# Altium schematic symbol library Diodes.SchLib: 19 symbols
Pins are listed as number, name and electrical type; pins without a type are passive.

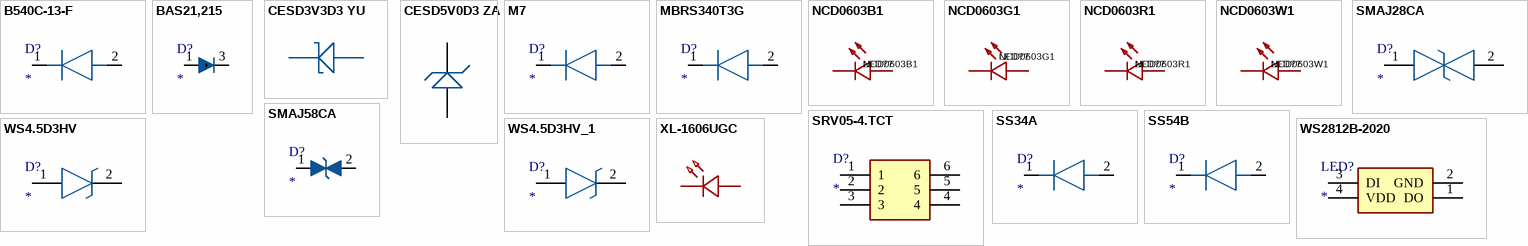
[diagram p0: symbols B540C-13-F to XL-1606UGC]

## B540C-13-F
designator D?
Diode; Manufacturer_Name: Diodes Incorporated; Manufacturer_Part_Number: B540C-13-F; Datasheet Link: https://componentsearchengine.com/Datasheets/2/B540C-13-F.pdf; Height: 2.5mm; Mouser Part Number: 621-B540C-F; Mouser Price/Stock: https://www.mouser.co.uk/ProductDetail/Diodes-Incorporated/B540C-13-F?qs=v2dnQLbuoRZXHN%2FK4ft5%252Bg%3D%3D; Arrow Part Number: B540C-13-F; Arrow Price/Stock: https://www.arrow.com/en/products/b540c-13-f/diodes-incorporated?region=nac
footprint DIOM7959X250N (Footprint not found)
pins: 1 K, 2 A

## BAS21,215
designator D?
Diode; Manufacturer_Name: Nexperia; Manufacturer_Part_Number: BAS21,215; Datasheet Link: https://assets.nexperia.com/documents/data-sheet/BAS21.pdf; Height: 1.1mm; Mouser Part Number: 771-BAS21-T/R; Mouser Price/Stock: https://www.mouser.co.uk/ProductDetail/Nexperia/BAS21215?qs=me8TqzrmIYVAUvbefFMRnQ%3D%3D; Arrow Part Number: BAS21,215; Arrow Price/Stock: https://www.arrow.com/en/products/bas21215/nexperia
footprint BAS21215
pins: 1 A, 2, 3 K

## CESD3V3D3 YU
designator E??  (value not drawn)
极性:单向;反向截止电压(Vrwm):3.3V;击穿电压(VBR):5V;钳位电压(Vc)@Ipp:13V;; Manufacturer: CJ(江苏长电/长晶); Add into BOM: yes; Polarity: 单向; Reverse Stand-Off Voltage (Vrwm): 3.3V; Breakdown Voltage (VBR): 5V; Peak Pulse Current(Ipp)@8/20us: 16A; Clamping Voltage@Ipp: 13V; Name: CESD3V3D3 YU; Symbol: CESD3V3D3; Device: CESD3V3D3 YU; LCSC Part Name: 单向ESD; Supplier Part: C38388; Manufacturer Part: CESD3V3D3 YU; Supplier Footprint: SOD-323; Datasheet: https://atta.szlcsc.com/upload/public/pdf/source/20150915/1457707371129.pdf; Supplier: LCSC; Convert to PCB: yes
footprint SOD-323_L1.8-W1.3-LS2.5-RD
3D model SOD-323_L1.7-W1.3-H1.1-LS2.5
pins: 1, 2

## CESD5V0D3 ZA
designator E??  (value not drawn)
Manufacturer: CJ(江苏长电/长晶); Add into BOM: yes; Polarity: 单向; Breakdown Voltage (VBR): 6.2V; Peak Pulse Current(Ipp)@8/20us: 15A; Reverse Stand-Off Voltage (Vrwm): 5V; Clamping Voltage@Ipp: 15.5V; Name: CESD5V0D3 ZA; Symbol: CESD5V0D3 ZA; Device: CESD5V0D3 ZA; LCSC Part Name: 单向ESD; Supplier Part: C22643; Manufacturer Part: CESD5V0D3 ZA; Supplier Footprint: SOD-323; JLCPCB Part Class: Extended Part; Datasheet: https://atta.szlcsc.com/upload/public/pdf/source/20140301/1457707004115.pdf; Supplier: LCSC; Convert to PCB: yes
footprint SOD-323_L1.8-W1.3-LS2.5-RD
3D model SOD-323_L1.7-W1.3-H1.1-LS2.5
pins: 1, 2

## M7
designator D?
Diode C2902910; Manufacturer_Name: Wurth Elektronik; Manufacturer_Part_Number: 824500850; Datasheet Link: https://datasheet.datasheetarchive.com/originals/distributors/DKDS-9/170649.pdf; Height: 2.5mm; Mouser Part Number: 710-824500850; Mouser Price/Stock: http://www.mouser.com/Search/ProductDetail.aspx?qs=16w8nSHsg3sA6biQsu7wzg%3d%3d
footprint DIOM5127X250N
pins: 1 K, 2 A

## MBRS340T3G
designator D?
Diode; Manufacturer_Name: onsemi; Manufacturer_Part_Number: MBRS340T3G; Datasheet Link: http://www.onsemi.com/pub/Collateral/MBRS340T3-D.PDF; Height: 2.61mm; Mouser Part Number: 863-MBRS340T3G; Mouser Price/Stock: https://www.mouser.co.uk/ProductDetail/onsemi/MBRS340T3G?qs=3JMERSakeboCr3wxBgfY3w%3D%3D; Arrow Part Number: MBRS340T3G; Arrow Price/Stock: https://www.arrow.com/en/products/mbrs340t3g/on-semiconductor?utm_currency=USD&region=europe
footprint DIOM8059X261N
pins: 1 K, 2 A

## NCD0603B1
designator LED??
Manufacturer: 国星光电; Symbol: FC-DA1608BK-470H10; Add into BOM: yes; Emitted Color: 蓝色; Forward Voltage (VF): 2.6V~3.6V; Power Dissipation: 72mW; Forward Current: 10mA; Dominant Wavelength: 463nm~475nm; Lens Color: 无色透明透镜; Luminous Intensity: 80mcd~220mcd; Viewing Angle: 130°; Device: NCD0603B1; LCSC Part Name: NCD0603B1; Supplier Part: C84266; Manufacturer Part: NCD0603B1; Supplier Footprint: 0603; JLCPCB Part Class: Extended Part; Datasheet: https://atta.szlcsc.com/upload/public/pdf/source/20200820/C84266_6A3CDBEFA72C6CAD68EDA53474ADAE6C.pdf; Supplier: LCSC; Convert to PCB: yes; Operating Temperature: -30℃~+85℃
footprint LED0603-RD
pins: 1 -, 2 +

## NCD0603G1
designator LED??
Manufacturer: 国星光电; Symbol: FC-D1608UGK-520D10; Add into BOM: yes; Emitted Color: 翠绿色; Forward Voltage (VF): 2.6V~3.6V; Power Dissipation: 72mW; Forward Current: 10mA; Dominant Wavelength: 515nm~530nm; Lens Color: 无色透明透镜; Luminous Intensity: 330mcd~900mcd; Viewing Angle: 130°; Device: NCD0603G1; LCSC Part Name: NCD0603G1; Supplier Part: C84267; Manufacturer Part: NCD0603G1; Supplier Footprint: 0603; JLCPCB Part Class: Extended Part; Datasheet: https://atta.szlcsc.com/upload/public/pdf/source/20200820/C84267_04BA7703640BAC111D09F5EFB971FBF3.pdf; Supplier: LCSC; Convert to PCB: yes; Operating Temperature: -30℃~+85℃
footprint LED0603-RD_1
pins: 1 K, 2 A

## NCD0603R1
designator LED??
C84263; Manufacturer: 国星光电; Symbol: FC-DA1608HRK-620D; Device: NCD0603R1_C84263; Add into BOM: yes; Emitted Color: 红色; Forward Voltage (VF): 1.6V~2.6V; Power Dissipation: 65mW; Forward Current: 20mA; Dominant Wavelength: 615nm~630nm; Diode Configuration: 独立二极管; Lens Color: 无色透明透镜; Luminous Intensity: 80mcd~220mcd; Viewing Angle: 130°; LCSC Part Name: NCD0603R1; Supplier Part: C84263; Manufacturer Part: NCD0603R1; Supplier Footprint: 0603; JLCPCB Part Class: Extended Part; Datasheet: https://atta.szlcsc.com/upload/public/pdf/source/20200820/C84263_DABC6A75E58F576973B407FDBA283D60.pdf; Supplier: LCSC; Convert to PCB: yes; Lamp Holder Type: -; Peak Wavelength: -; Color Temperature: -; Mounting Sytle: -; Operating Temperature: -30℃~+85℃
footprint LED0603-RD
pins: 1 K, 2 A

## NCD0603W1
designator LED??
Manufacturer: 国星光电; Symbol: FC-D1608WD-460H5; Add into BOM: yes; Emitted Color: 白色; Forward Voltage (VF): 2.6V~3.6V; Power Dissipation: 72mW; Forward Current: 5mA; Lens Color: 雾状黄透镜; Luminous Intensity: 200mcd~300mcd; Viewing Angle: 130°; Device: NCD0603W1; LCSC Part Name: NCD0603W1; Supplier Part: C84265; Manufacturer Part: NCD0603W1; Supplier Footprint: 0603; JLCPCB Part Class: Extended Part; Datasheet: https://atta.szlcsc.com/upload/public/pdf/source/20200820/C84265_479E6193713348A548E5CD6D9278BF16.pdf; Supplier: LCSC; Convert to PCB: yes; Operating Temperature: -30℃~+85℃
footprint LED0603-RD
pins: 1 -, 2 +

## SMAJ28CA
designator D?
TVS Diode (Bi-directional); Manufacturer_Name: Bourns; Manufacturer_Part_Number: SMAJ28CA; Datasheet Link: https://www.bourns.com/data/global/pdfs/SMAJ.pdf; Height: 2.62mm; Mouser Part Number: 652-SMAJ28CA; Mouser Price/Stock: https://www.mouser.co.uk/ProductDetail/Bourns/SMAJ28CA?qs=A3H9pljuJ8Rc2FOBsYvsOw%3D%3D; Arrow Part Number: SMAJ28CA; Arrow Price/Stock: https://www.arrow.com/en/products/smaj28ca/bourns?utm_currency=USD&region=nac
footprint DIONM5226X262N (Footprint not found)
pins: 1, 2

## SMAJ58CA
designator D?
TVS Diode (Bi-directional); Manufacturer_Name: LITTELFUSE; Manufacturer_Part_Number: SMAJ58CA; Datasheet Link: http://www.littelfuse.com/~/media/electronics/datasheets/tvs_diodes/littelfuse_tvs_diode_smaj_datasheet.pdf.pdf; Height: 2.29mm; Mouser Part Number: 576-SMAJ58CA; Mouser Price/Stock: https://www.mouser.co.uk/ProductDetail/Littelfuse/SMAJ58CA?qs=zHiv0nsVGmqWEBj8DDvFYg%3D%3D; Arrow Part Number: SMAJ58CA; Arrow Price/Stock: https://www.arrow.com/en/products/smaj58ca/littelfuse?region=nac
footprint DIOM5026X229N (Footprint not found)
pins: 1, 2

## SRV05-4.TCT
designator D?
TVS Diode (Uni-directional); Manufacturer_Name: SEMTECH; Manufacturer_Part_Number: SRV05-4.TCT; Description: Semtech SRV05-4.TCT; Datasheet Link: https://datasheet.datasheetarchive.com/originals/distributors/Datasheets-DGA26/1842016.pdf; Height: 1.45mm; Mouser Part Number: 947-SRV05-4.TCT; Mouser Price/Stock: https://www.mouser.co.uk/ProductDetail/Semtech/SRV05-4.TCT?qs=rBWM4%252BvDhIe0tfPjqKjR5Q%3D%3D; Arrow Part Number: SRV05-4.TCT; Arrow Price/Stock: https://www.arrow.com/en/products/srv05-4.tct/semtech?utm_currency=USD&region=nac
footprint SOT95P280X145-6N
pins: 1, 2, 3, 4, 5, 6

## SS34A
designator D?
Diode; Manufacturer_Name: HY Electronic; Manufacturer_Part_Number: SS34A; Datasheet Link: https://datasheet.datasheetarchive.com/originals/distributors/Datasheets-3/DSA-43252.pdf; Height: 2.62mm
footprint DIOM5026X262N
pins: 1 K, 2 A

## SS54B
designator D?
Diode; Manufacturer_Name: HY Electronic; Manufacturer_Part_Number: SS54B; Datasheet Link: https://datasheet.datasheetarchive.com/originals/distributors/Datasheets-3/DSA-43270.pdf; Height: 2.44mm
footprint DIOM5336X244N (Footprint not found)
pins: 1 K, 2 A

## WS4.5D3HV
designator D?
TVS Diode (Uni-directional); Manufacturer_Name: Way-On; Manufacturer_Part_Number: WS4.5D3HV; Datasheet Link: https://www.way-on.com/upload/201807/31/201807311326214442.pdf; Height: 0.7mm
footprint WS45D3HV
pins: 1 A, 2 K

## WS4.5D3HV_1
designator D?
TVS Diode (Uni-directional); Manufacturer_Name: Way-On; Manufacturer_Part_Number: WS4.5D3HV; Description: Transient Voltage Suppressor; Datasheet Link: https://www.way-on.com/upload/201807/31/201807311326214442.pdf; Height: 0.7mm
footprint WS45D3HV
pins: 1 A, 2 K

## WS2812B-2020
designator LED?
LED (Multiple); Manufacturer_Name: Worldsemi; Manufacturer_Part_Number: WS2812B-2020; Datasheet Link: https://www.alldatasheet.com/datasheet-pdf/pdf/1134522/WORLDSEMI/WS2812B-2020.html; Height: 0.84mm
footprint WS2812B2020 (Footprint not found)
pins: 1 DO, 2 GND, 3 DI, 4 VDD

## XL-1606UGC
designator LED??  (value not drawn)
Manufacturer: XINGLIGHT(成兴光); Add into BOM: yes; Emitted Color: 翠绿色; Power Dissipation: 80mW; Forward Current: 25mA; Dominant Wavelength: 520nm~530nm; Peak Wavelength: 535nm; Lens Color: 无色透明透镜; Viewing Angle: 120°; Mounting Sytle: 侧贴; Symbol: XL-1606UGC; Device: XL-1606UGC; LCSC Part Name: XL-1606UGC; Supplier Part: C965863; Manufacturer Part: XL-1606UGC; Supplier Footprint: SMD,1.1x1.7mm; JLCPCB Part Class: Extended Part; Datasheet: https://atta.szlcsc.com/upload/public/pdf/source/20221102/94FA3AB05D9E652787BBD0AFAAE97065.pdf; Supplier: LCSC; Convert to PCB: yes; Color Temperature: -; Operating Temperature: -30℃~+85℃
footprint LED-SMD_L1.7-W1.1-R-RD_GREEN
pins: 1 A, 2 K